# Altium integrated library LEDs-SMDC_rev15a.intlib: 8 symbols
Pins are listed as number, name and electrical type; pins without a type are passive.

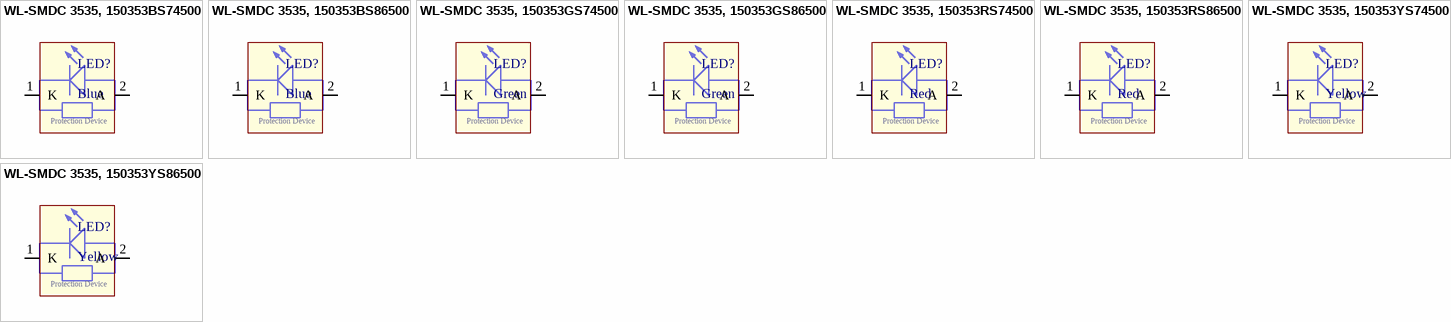
[diagram p0: symbols WL-SMDC 3535, 150353BS74500 to WL-SMDC 3535, 150353YS86500]

## WL-SMDC 3535, 150353BS74500
designator LED?, comment Blue
SMD Ceramic mono-color High-power LED waterclear, WL-SMDC; PartNo: 150353BS74500; Manufacturer: Würth Elektronik eiSos GmbH; Forward voltage (Typ): 3.2V; Reverse Voltage: 5V; Continuous Forward Current: 1000 mA; Emitting Color: Blue; ComponentLink1Description: Manufacturer; ComponentLink1URL: http://www.we-online.de; Created by: Christin Otto; Created Date: Oct 2014; ComponentLink2Description: Datasheet; ComponentLink2URL: http://katalog.we-online.de/kataloge/eisos/media/pdf/150353BS74500.pdf
footprint WL-SMDC 3535 -LP (LED-SMD ,Body 3.45x3.45mm)
pins: 1 K, 2 A
text: Protection Device

## WL-SMDC 3535, 150353BS86500
designator LED?, comment Blue
SMD Ceramic mono-color High-power LED waterclear, WL-SMDC; PartNo: 150353BS86500; Manufacturer: Würth Elektronik eiSos GmbH; Forward voltage (Typ): 3.2V; Reverse Voltage: 5V; Continuous Forward Current: 1000 mA; Emitting Color: Blue; ComponentLink1Description: Manufacturer; ComponentLink1URL: http://www.we-online.de; Created by: Christin Otto; Created Date: Oct 2014; ComponentLink2Description: Datasheet; ComponentLink2URL: http://katalog.we-online.de/kataloge/eisos/media/pdf/150353BS86500.pdf
footprint WL-SMDC 3535 (LED-SMD ,Body 3.45x3.45mm)
pins: 1 K, 2 A
text: Protection Device

## WL-SMDC 3535, 150353GS74500
designator LED?, comment Green
SMD Ceramic mono-color High-power LED waterclear, WL-SMDC; PartNo: 150353GS74500; Manufacturer: Würth Elektronik eiSos GmbH; Forward voltage (Typ): 3.4V; Reverse Voltage: 5V; Continuous Forward Current: 1000 mA; Emitting Color: Green; ComponentLink1Description: Manufacturer; ComponentLink1URL: http://www.we-online.de; Created by: Christin Otto; Created Date: Oct 2014; ComponentLink2Description: Datasheet; ComponentLink2URL: http://katalog.we-online.de/kataloge/eisos/media/pdf/150353GS74500.pdf
footprint WL-SMDC 3535 -LP (LED-SMD ,Body 3.45x3.45mm)
pins: 1 K, 2 A
text: Protection Device

## WL-SMDC 3535, 150353GS86500
designator LED?, comment Green
SMD Ceramic mono-color High-power LED waterclear, WL-SMDC; PartNo: 150353GS86500; Manufacturer: Würth Elektronik eiSos GmbH; Forward voltage (Typ): 3.4V; Reverse Voltage: 5V; Continuous Forward Current: 1000 mA; Emitting Color: Green; ComponentLink1Description: Manufacturer; ComponentLink1URL: http://www.we-online.de; Created by: Christin Otto; Created Date: Oct 2014; ComponentLink2Description: Datasheet; ComponentLink2URL: http://katalog.we-online.de/kataloge/eisos/media/pdf/150353GS86500.pdf
footprint WL-SMDC 3535 (LED-SMD ,Body 3.45x3.45mm)
pins: 1 K, 2 A
text: Protection Device

## WL-SMDC 3535, 150353RS74500
designator LED?, comment Red
SMD Ceramic mono-color High-power LED waterclear, WL-SMDC; PartNo: 150353RS74500; Manufacturer: Würth Elektronik eiSos GmbH; Forward voltage (Typ): 2.2V; Reverse Voltage: 5V; Continuous Forward Current: 700 mA; Emitting Color: Red; ComponentLink1Description: Manufacturer; ComponentLink1URL: http://www.we-online.de; Created by: Christin Otto; Created Date: Oct 2014; ComponentLink2Description: Datasheet; ComponentLink2URL: http://katalog.we-online.de/kataloge/eisos/media/pdf/150353RS74500.pdf
footprint WL-SMDC 3535 -LP (LED-SMD ,Body 3.45x3.45mm)
pins: 1 K, 2 A
text: Protection Device

## WL-SMDC 3535, 150353RS86500
designator LED?, comment Red
SMD Ceramic mono-color High-power LED waterclear, WL-SMDC; PartNo: 150353RS86500; Manufacturer: Würth Elektronik eiSos GmbH; Forward voltage (Typ): 2.2V; Reverse Voltage: 5V; Continuous Forward Current: 700 mA; Emitting Color: Red; ComponentLink1Description: Manufacturer; ComponentLink1URL: http://www.we-online.de; Created by: Christin Otto; Created Date: Oct 2014; ComponentLink2Description: Datasheet; ComponentLink2URL: http://katalog.we-online.de/kataloge/eisos/media/pdf/150353RS86500.pdf
footprint WL-SMDC 3535 (LED-SMD ,Body 3.45x3.45mm)
pins: 1 K, 2 A
text: Protection Device

## WL-SMDC 3535, 150353YS74500
designator LED?, comment Yellow
SMD Ceramic mono-color High-power LED waterclear, WL-SMDC; PartNo: 150353YS74500; Manufacturer: Würth Elektronik eiSos GmbH; Forward voltage (Typ): 2.2V; Reverse Voltage: 5V; Continuous Forward Current: 700 mA; Emitting Color: Yellow; ComponentLink1Description: Manufacturer; ComponentLink1URL: http://www.we-online.de; Created by: Christin Otto; Created Date: Oct 2014; ComponentLink2Description: Datasheet; ComponentLink2URL: http://katalog.we-online.de/kataloge/eisos/media/pdf/150353YS74500.pdf
footprint WL-SMDC 3535 -LP (LED-SMD ,Body 3.45x3.45mm)
pins: 1 K, 2 A
text: Protection Device

## WL-SMDC 3535, 150353YS86500
designator LED?, comment Yellow
SMD Ceramic mono-color High-power LED waterclear, WL-SMDC; PartNo: 150353YS86500; Manufacturer: Würth Elektronik eiSos GmbH; Forward voltage (Typ): 2.2V; Reverse Voltage: 5V; Continuous Forward Current: 700 mA; Emitting Color: Yellow; ComponentLink1Description: Manufacturer; ComponentLink1URL: http://www.we-online.de; Created by: Christin Otto; Created Date: Oct 2014; ComponentLink2Description: Datasheet; ComponentLink2URL: http://katalog.we-online.de/kataloge/eisos/media/pdf/150353YS86500.pdf
footprint WL-SMDC 3535 (LED-SMD ,Body 3.45x3.45mm)
pins: 1 K, 2 A
text: Protection Device